# Altium schematic symbol library SCH - ANNOTATION - LOGO THN TUM USACH.SCHLIB: 1 symbol
Pins are listed as number, name and electrical type; pins without a type are passive.

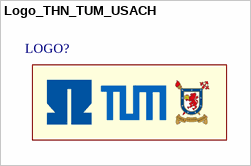
[diagram p0: symbol Logo_THN_TUM_USACH]

## Logo_THN_TUM_USACH
designator LOGO?  (value not drawn)  (no BOM)
Logo of THN TUM USACH